# Altium footprint library BeaconBoard.PcbLib: 34 footprints (part 1 of 3)
Each footprint in its own frame and in the unit in brackets; x right, y up, seen from the top. Pads: shape width x height; smd on the part's side, far side on the other; paste and mask are expansions set on the pad; w line width, h text height; cw(c..) or ccw(c..) is an arc to the next point about the centre after c.
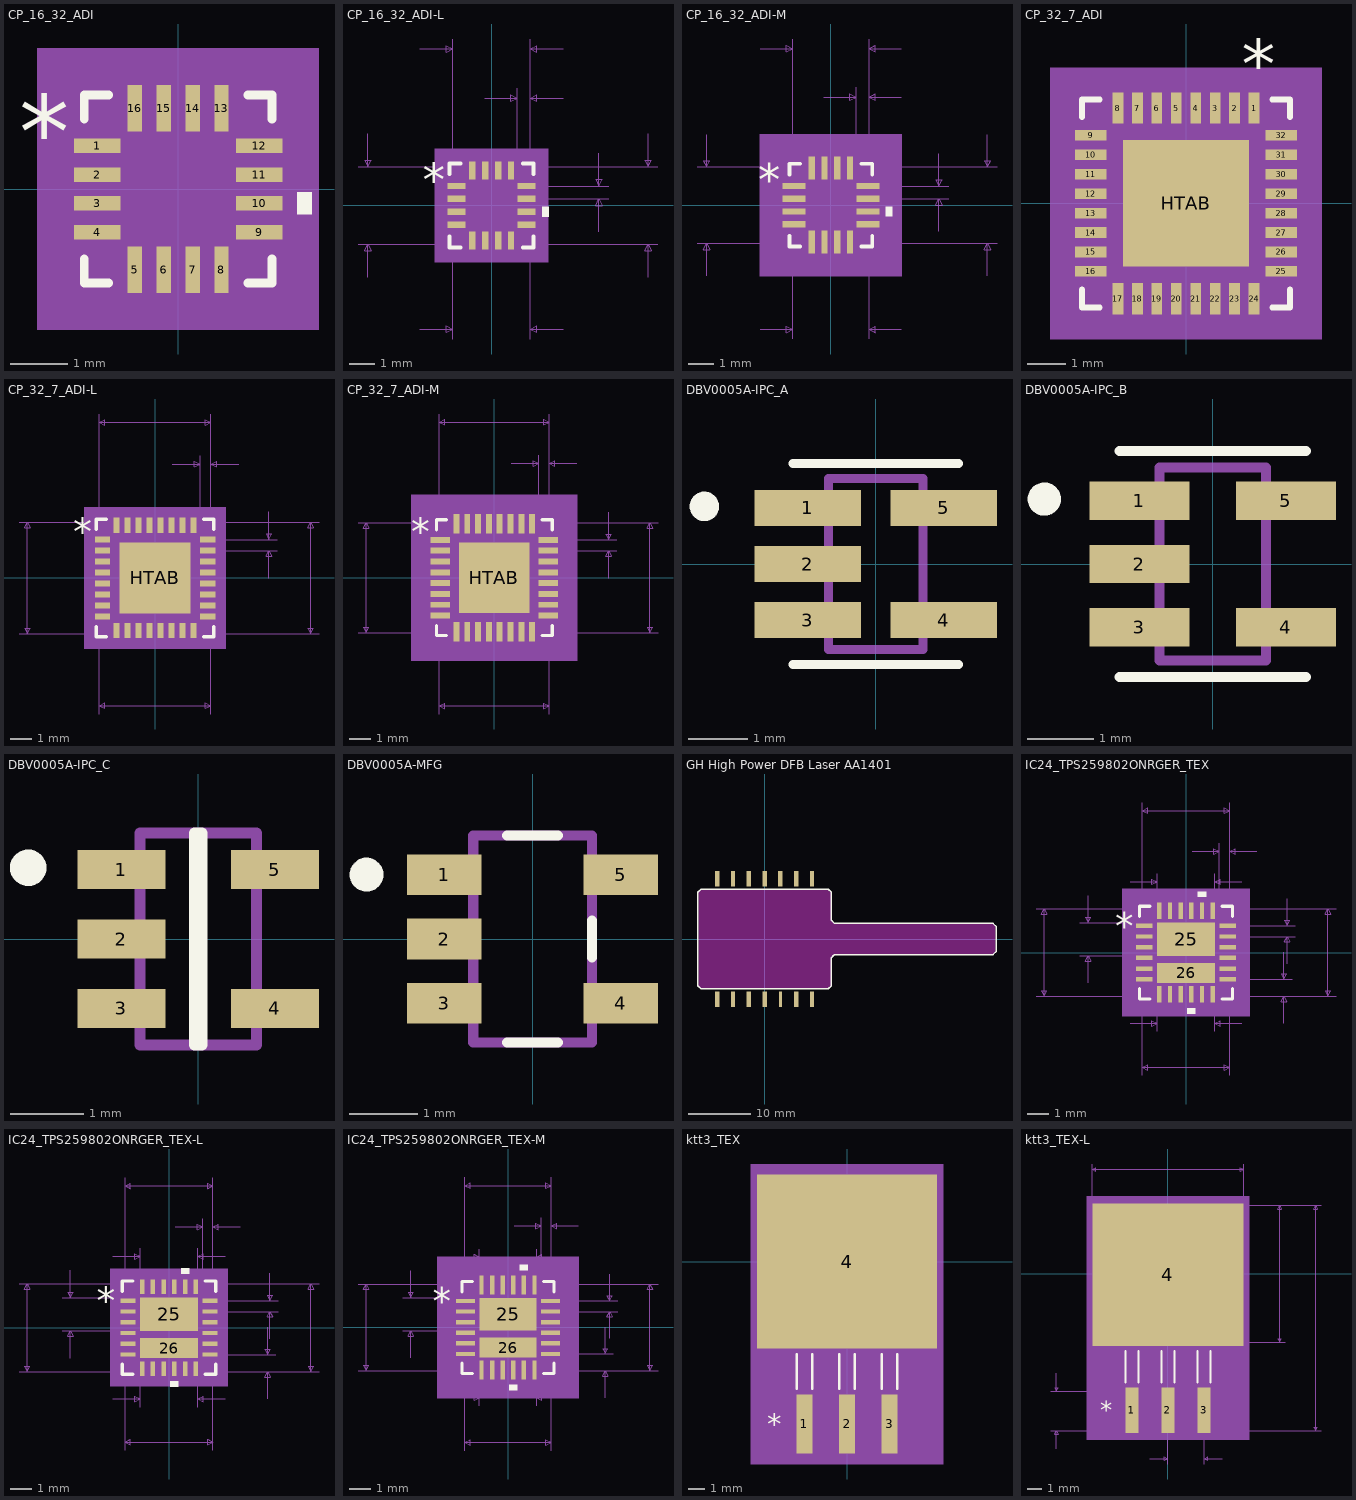
[diagram p0: the footprints below, top view; thin cyan lines are the x and y axes]

## CP_16_32_ADI [mm]
pads (16):
  rect 0.805x0.249 smd paste+0 mask+0: 1(-1.402,0.75) 2(-1.402,0.25) 3(-1.402,-0.25) 4(-1.402,-0.75) 9(1.402,-0.75) 10(1.402,-0.25) 11(1.402,0.25) 12(1.402,0.75)
  rect 0.249x0.805 smd paste+0 mask+0: 5(-0.75,-1.402) 6(-0.25,-1.402) 7(0.25,-1.402) 8(0.75,-1.402) 13(0.75,1.402) 14(0.25,1.402) 15(-0.25,1.402) 16(-0.75,1.402)
Top Overlay:
  region: 2.059,-0.059 2.313,-0.059 2.313,-0.44 2.059,-0.44
  lines w0.152: -1.627,-1.207 -1.627,-1.627 -1.207,-1.627 ; -1.627,1.207 -1.627,1.627 -1.207,1.627 ; 1.207,-1.627 1.627,-1.627 1.627,-1.207 ; 1.207,1.627 1.627,1.627 1.627,1.207
  text "*" at -2.757,0.365 h1.27
Mechanical 5:
  region: 2.44,-2.44 -2.44,-2.44 -2.44,2.44 2.44,2.44
Mechanical 13:
  lines w0.025: -1.5,0.23 -0.23,1.5 ; -1.5,-1.5 -1.5,1.5 1.5,1.5 1.5,-1.5 -1.5,-1.5 ; -1.5,-0.9 -1.5,-0.6 -1.5,-0.9 ; -1.5,-0.4 -1.5,-0.1 -1.5,-0.4 ; -1.5,0.1 -1.5,0.4 -1.5,0.1 ; -1.5,0.6 -1.5,0.9 -1.5,0.6 ; -0.9,-1.5 -0.6,-1.5 -0.9,-1.5 ; -0.9,1.5 -0.6,1.5 -0.9,1.5 ; -0.4,-1.5 -0.1,-1.5 -0.4,-1.5 ; -0.4,1.5 -0.1,1.5 -0.4,1.5 ; 0.1,-1.5 0.4,-1.5 0.1,-1.5 ; 0.1,1.5 0.4,1.5 0.1,1.5 ; 0.6,-1.5 0.9,-1.5 0.6,-1.5 ; 0.6,1.5 0.9,1.5 0.6,1.5 ; 1.5,-0.9 1.5,-0.6 1.5,-0.9 ; 1.5,-0.4 1.5,-0.1 1.5,-0.4 ; 1.5,0.1 1.5,0.4 1.5,0.1 ; 1.5,0.6 1.5,0.9 1.5,0.6
  text "*" at -1.318,0.365 h1.27
Mechanical 15:
  region: -1.129,-1.754 -1.754,-1.754 -1.754,-1.129 -2.059,-1.129 -2.059,1.129 -1.754,1.129 -1.754,1.754 -1.129,1.754 -1.129,2.059 1.129,2.059 1.129,1.754 1.754,1.754 1.754,1.129 2.059,1.129 2.059,-1.129 1.754,-1.129 1.754,-1.754 1.129,-1.754 1.129,-2.059 -1.129,-2.059
  lines w0.152: -2.059,-1.129 -2.059,1.129 -1.754,1.129 -1.754,1.754 -1.129,1.754 -1.129,2.059 1.129,2.059 1.129,1.754 1.754,1.754 1.754,1.129 2.059,1.129 2.059,-1.129 1.754,-1.129 1.754,-1.754 1.129,-1.754 1.129,-2.059 -1.129,-2.059 -1.129,-1.754 -1.754,-1.754 -1.754,-1.129 -2.059,-1.129
3D body "CP_16_32_ADI.step": height 0.89, standoff 0, extent -1.5,-1.5 1.5,1.5
3D body: height 0.25, standoff 0, extent 0,0 0.254,0.254

## CP_16_32_ADI-L [mm]
pads (16):
  rect 0.703x0.249 smd paste+0 mask+0: 1(-1.352,0.75) 2(-1.352,0.25) 3(-1.352,-0.25) 4(-1.352,-0.75) 9(1.352,-0.75) 10(1.352,-0.25) 11(1.352,0.25) 12(1.352,0.75)
  rect 0.249x0.703 smd paste+0 mask+0: 5(-0.75,-1.352) 6(-0.25,-1.352) 7(0.25,-1.352) 8(0.75,-1.352) 13(0.75,1.352) 14(0.25,1.352) 15(-0.25,1.352) 16(-0.75,1.352)
Top Overlay:
  region: 1.957,-0.059 2.211,-0.059 2.211,-0.44 1.957,-0.44
  lines w0.152: -1.627,-1.207 -1.627,-1.627 -1.207,-1.627 ; -1.627,1.207 -1.627,1.627 -1.207,1.627 ; 1.207,-1.627 1.627,-1.627 1.627,-1.207 ; 1.207,1.627 1.627,1.627 1.627,1.207
  text "*" at -2.656,0.365 h1.27
Mechanical 5:
  region: 2.186,-2.186 -2.186,-2.186 -2.186,2.186 2.186,2.186
Mechanical 7:
  lines w0.025: -5.158,-1.5 1.5,-1.5 ; -5.158,1.5 1.5,1.5 1.5,-5.158 ; -4.777,-2.77 -4.777,-1.5 ; -4.777,2.77 -4.777,1.5 ; -2.77,-4.777 -1.5,-4.777 ; -2.77,6.047 -1.5,6.047 ; -1.5,-5.158 -1.5,1.5 ; -1.5,0.75 -1.5,6.428 ; -0.27,4.142 1,4.142 ; 0.75,-1.5 6.428,-1.5 ; 0.75,1.5 6.428,1.5 ; 1,0.75 1,4.523 ; 1.352,0.25 4.523,0.25 ; 1.352,0.75 4.523,0.75 ; 1.5,4.523 1.5,0.75 1.5,6.428 ; 2.77,-4.777 1.5,-4.777 ; 2.77,4.142 1.5,4.142 ; 2.77,6.047 1.5,6.047 ; 4.142,-1.02 4.142,0.25 ; 4.142,2.02 4.142,0.75 ; 6.047,-2.77 6.047,-1.5 ; 6.047,2.77 6.047,1.5 ; -4.777,-1.5 -4.904,-1.754 -4.65,-1.754 -4.777,-1.5 ; -4.777,1.5 -4.904,1.754 -4.65,1.754 -4.777,1.5 ; -1.5,-4.777 -1.754,-4.65 -1.754,-4.904 -1.5,-4.777 ; -1.5,6.047 -1.754,6.174 -1.754,5.92 -1.5,6.047 ; 1,4.142 0.746,4.269 0.746,4.015 1,4.142 ; 1.5,-4.777 1.754,-4.65 1.754,-4.904 1.5,-4.777 ; 1.5,4.142 1.754,4.269 1.754,4.015 1.5,4.142 ; 1.5,6.047 1.754,6.174 1.754,5.92 1.5,6.047 ; 4.142,0.25 4.015,-0.004 4.269,-0.004 4.142,0.25 ; 4.142,0.75 4.015,1.004 4.269,1.004 4.142,0.75 ; 6.047,-1.5 5.92,-1.754 6.174,-1.754 6.047,-1.5 ; 6.047,1.5 5.92,1.754 6.174,1.754 6.047,1.5
  text "Default Padstyle: RX9p81Y27p69D0T" at -10.477,-9.577 h1.27
  text "Alt 1 Padstyle: OX60Y90D30P" at -8.572,-14.149 h1.27
  text "Alt 2 Padstyle: OX90Y60D30P" at -8.572,-15.673 h1.27
  text "0.02in/0.5mm" at 4.65,0.182 h0.64
  text "0.02in/0.5mm" at -0.655,4.65 h0.64
  text "0.118in/3mm" at -1.746,6.555 h0.64
  text "0.118in/3mm" at 6.555,-0.318 h0.64
  text "0.118in/3mm" at -8.777,-0.318 h0.64
  text "0.118in/3mm" at -1.746,-5.92 h0.64
Mechanical 13:
  lines w0.025: -1.5,0.23 -0.23,1.5 ; -1.5,-1.5 1.5,-1.5 1.5,1.5 -1.5,1.5 -1.5,-1.5 ; -1.5,-0.9 -1.5,-0.6 -1.5,-0.9 ; -1.5,-0.4 -1.5,-0.1 -1.5,-0.4 ; -1.5,0.1 -1.5,0.4 -1.5,0.1 ; -1.5,0.6 -1.5,0.9 -1.5,0.6 ; -0.9,-1.5 -0.6,-1.5 -0.9,-1.5 ; -0.9,1.5 -0.6,1.5 -0.9,1.5 ; -0.4,-1.5 -0.1,-1.5 -0.4,-1.5 ; -0.4,1.5 -0.1,1.5 -0.4,1.5 ; 0.1,-1.5 0.4,-1.5 0.1,-1.5 ; 0.1,1.5 0.4,1.5 0.1,1.5 ; 0.6,-1.5 0.9,-1.5 0.6,-1.5 ; 0.6,1.5 0.9,1.5 0.6,1.5 ; 1.5,-0.9 1.5,-0.6 1.5,-0.9 ; 1.5,-0.4 1.5,-0.1 1.5,-0.4 ; 1.5,0.1 1.5,0.4 1.5,0.1 ; 1.5,0.6 1.5,0.9 1.5,0.6
  text "*" at -1.318,0.365 h1.27
Mechanical 15:
  region: -0.976,-1.602 -1.602,-1.602 -1.602,-0.976 -1.805,-0.976 -1.805,0.976 -1.602,0.976 -1.602,1.602 -0.976,1.602 -0.976,1.805 0.976,1.805 0.976,1.602 1.602,1.602 1.602,0.976 1.805,0.976 1.805,-0.976 1.602,-0.976 1.602,-1.602 0.976,-1.602 0.976,-1.805 -0.976,-1.805
  lines w0.152: -1.805,-0.976 -1.602,-0.976 -1.602,-1.602 -0.976,-1.602 -0.976,-1.805 0.976,-1.805 0.976,-1.602 1.602,-1.602 1.602,-0.976 1.805,-0.976 1.805,0.976 1.602,0.976 1.602,1.602 0.976,1.602 0.976,1.805 -0.976,1.805 -0.976,1.602 -1.602,1.602 -1.602,0.976 -1.805,0.976 -1.805,-0.976
3D body: height 0.25, standoff 0, extent 0,0 0.254,0.254
3D body "CP_16_32_ADI.step": height 0.89, standoff 0, extent -1.5,-1.5 1.5,1.5

## CP_16_32_ADI-M [mm]
pads (16):
  rect 0.906x0.249 smd paste+0 mask+0: 1(-1.453,0.75) 2(-1.453,0.25) 3(-1.453,-0.25) 4(-1.453,-0.75) 9(1.453,-0.75) 10(1.453,-0.25) 11(1.453,0.25) 12(1.453,0.75)
  rect 0.249x0.906 smd paste+0 mask+0: 5(-0.75,-1.453) 6(-0.25,-1.453) 7(0.25,-1.453) 8(0.75,-1.453) 13(0.75,1.453) 14(0.25,1.453) 15(-0.25,1.453) 16(-0.75,1.453)
Top Overlay:
  region: 2.16,-0.059 2.414,-0.059 2.414,-0.44 2.16,-0.44
  lines w0.152: -1.627,-1.207 -1.627,-1.627 -1.207,-1.627 ; -1.627,1.207 -1.627,1.627 -1.207,1.627 ; 1.207,-1.627 1.627,-1.627 1.627,-1.207 ; 1.207,1.627 1.627,1.627 1.627,1.207
  text "*" at -2.859,0.365 h1.27
Mechanical 5:
  region: 2.795,-2.795 -2.795,-2.795 -2.795,2.795 2.795,2.795
Mechanical 7:
  lines w0.025: -5.259,-1.5 1.5,-1.5 ; -5.259,1.5 1.5,1.5 1.5,-5.259 ; -4.878,-2.77 -4.878,-1.5 ; -4.878,2.77 -4.878,1.5 ; -2.77,-4.878 -1.5,-4.878 ; -2.77,6.148 -1.5,6.148 ; -1.5,-5.259 -1.5,1.5 ; -1.5,0.75 -1.5,6.529 ; -0.27,4.243 1,4.243 ; 0.75,-1.5 6.529,-1.5 ; 0.75,1.5 6.529,1.5 ; 1,0.75 1,4.624 ; 1.453,0.25 4.624,0.25 ; 1.453,0.75 4.624,0.75 ; 1.5,4.624 1.5,0.75 1.5,6.529 ; 2.77,-4.878 1.5,-4.878 ; 2.77,4.243 1.5,4.243 ; 2.77,6.148 1.5,6.148 ; 4.243,-1.02 4.243,0.25 ; 4.243,2.02 4.243,0.75 ; 6.148,-2.77 6.148,-1.5 ; 6.148,2.77 6.148,1.5 ; -4.878,-1.5 -5.005,-1.754 -4.751,-1.754 -4.878,-1.5 ; -4.878,1.5 -5.005,1.754 -4.751,1.754 -4.878,1.5 ; -1.5,-4.878 -1.754,-4.751 -1.754,-5.005 -1.5,-4.878 ; -1.5,6.148 -1.754,6.275 -1.754,6.021 -1.5,6.148 ; 1,4.243 0.746,4.37 0.746,4.116 1,4.243 ; 1.5,-4.878 1.754,-4.751 1.754,-5.005 1.5,-4.878 ; 1.5,4.243 1.754,4.37 1.754,4.116 1.5,4.243 ; 1.5,6.148 1.754,6.275 1.754,6.021 1.5,6.148 ; 4.243,0.25 4.116,-0.004 4.37,-0.004 4.243,0.25 ; 4.243,0.75 4.116,1.004 4.37,1.004 4.243,0.75 ; 6.148,-1.5 6.021,-1.754 6.275,-1.754 6.148,-1.5 ; 6.148,1.5 6.021,1.754 6.275,1.754 6.148,1.5
  text "Default Padstyle: RX9p81Y35p69D0T" at -10.477,-9.78 h1.27
  text "Alt 1 Padstyle: OX60Y90D30P" at -8.572,-14.352 h1.27
  text "Alt 2 Padstyle: OX90Y60D30P" at -8.572,-15.876 h1.27
  text "0.02in/0.5mm" at 4.751,0.182 h0.64
  text "0.02in/0.5mm" at -0.655,4.751 h0.64
  text "0.118in/3mm" at -1.746,6.656 h0.64
  text "0.118in/3mm" at 6.656,-0.318 h0.64
  text "0.118in/3mm" at -8.879,-0.318 h0.64
  text "0.118in/3mm" at -1.746,-6.021 h0.64
Mechanical 13:
  lines w0.025: -1.5,0.23 -0.23,1.5 ; -1.5,-1.5 1.5,-1.5 1.5,1.5 -1.5,1.5 -1.5,-1.5 ; -1.5,-0.9 -1.5,-0.6 -1.5,-0.9 ; -1.5,-0.4 -1.5,-0.1 -1.5,-0.4 ; -1.5,0.1 -1.5,0.4 -1.5,0.1 ; -1.5,0.6 -1.5,0.9 -1.5,0.6 ; -0.9,-1.5 -0.6,-1.5 -0.9,-1.5 ; -0.9,1.5 -0.6,1.5 -0.9,1.5 ; -0.4,-1.5 -0.1,-1.5 -0.4,-1.5 ; -0.4,1.5 -0.1,1.5 -0.4,1.5 ; 0.1,-1.5 0.4,-1.5 0.1,-1.5 ; 0.1,1.5 0.4,1.5 0.1,1.5 ; 0.6,-1.5 0.9,-1.5 0.6,-1.5 ; 0.6,1.5 0.9,1.5 0.6,1.5 ; 1.5,-0.9 1.5,-0.6 1.5,-0.9 ; 1.5,-0.4 1.5,-0.1 1.5,-0.4 ; 1.5,0.1 1.5,0.4 1.5,0.1 ; 1.5,0.6 1.5,0.9 1.5,0.6
  text "*" at -1.318,0.365 h1.27
Mechanical 15:
  region: -1.383,-2.008 -2.008,-2.008 -2.008,-1.383 -2.414,-1.383 -2.414,1.383 -2.008,1.383 -2.008,2.008 -1.383,2.008 -1.383,2.414 1.383,2.414 1.383,2.008 2.008,2.008 2.008,1.383 2.414,1.383 2.414,-1.383 2.008,-1.383 2.008,-2.008 1.383,-2.008 1.383,-2.414 -1.383,-2.414
  lines w0.152: -2.414,-1.383 -2.008,-1.383 -2.008,-2.008 -1.383,-2.008 -1.383,-2.414 1.383,-2.414 1.383,-2.008 2.008,-2.008 2.008,-1.383 2.414,-1.383 2.414,1.383 2.008,1.383 2.008,2.008 1.383,2.008 1.383,2.414 -1.383,2.414 -1.383,2.008 -2.008,2.008 -2.008,1.383 -2.414,1.383 -2.414,-1.383
3D body "CP_16_32_ADI.step": height 0.89, standoff 0, extent -1.5,-1.5 1.5,1.5
3D body: height 0.25, standoff 0, extent 0,0 0.254,0.254

## CP_32_7_ADI [mm]
pads (33):
  rect 0.275x0.805 smd paste+0 mask+0: 1(1.75,2.452) 2(1.25,2.452) 3(0.75,2.452) 4(0.25,2.452) 5(-0.25,2.452) 6(-0.75,2.452) 7(-1.25,2.452) 8(-1.75,2.452) 17(-1.75,-2.452) 18(-1.25,-2.452) 19(-0.75,-2.452) 20(-0.25,-2.452) 21(0.25,-2.452) 22(0.75,-2.452) 23(1.25,-2.452) 24(1.75,-2.452)
  rect 0.805x0.275 smd paste+0 mask+0: 9(-2.452,1.75) 10(-2.452,1.25) 11(-2.452,0.75) 12(-2.452,0.25) 13(-2.452,-0.25) 14(-2.452,-0.75) 15(-2.452,-1.25) 16(-2.452,-1.75) 25(2.452,-1.75) 26(2.452,-1.25) 27(2.452,-0.75) 28(2.452,-0.25) 29(2.452,0.25) 30(2.452,0.75) 31(2.452,1.25) 32(2.452,1.75)
  rect 3.25x3.25 smd paste+0 mask+0: HTAB(0,0)
Top Overlay:
  lines w0.152: -2.677,-2.22 -2.677,-2.677 -2.22,-2.677 ; -2.677,2.22 -2.677,2.677 -2.22,2.677 ; 2.22,-2.677 2.677,-2.677 2.677,-2.22 ; 2.22,2.677 2.677,2.677 2.677,2.22
  text "*" at 1.432,2.96 h1.27
Top Paste:
  region: -0.1,1.525 -1.525,1.525 -1.525,0.1 -0.1,0.1
  region: -0.1,-0.1 -1.525,-0.1 -1.525,-1.525 -0.1,-1.525
  region: 1.525,1.525 0.1,1.525 0.1,0.1 1.525,0.1
  region: 1.525,-0.1 0.1,-0.1 0.1,-1.525 1.525,-1.525
Mechanical 5:
  region: 3.49,-3.49 -3.49,-3.49 -3.49,3.49 3.49,3.49
Mechanical 13:
  lines w0.025: -2.55,-2.55 2.55,-2.55 2.55,2.55 -2.55,2.55 -2.55,-2.55 ; -2.55,-1.9 -2.55,-1.6 -2.55,-1.9 ; -2.55,-1.4 -2.55,-1.1 -2.55,-1.4 ; -2.55,-0.9 -2.55,-0.6 -2.55,-0.9 ; -2.55,-0.4 -2.55,-0.1 -2.55,-0.4 ; -2.55,0.1 -2.55,0.4 -2.55,0.1 ; -2.55,0.6 -2.55,0.9 -2.55,0.6 ; -2.55,1.1 -2.55,1.4 -2.55,1.1 ; -2.55,1.6 -2.55,1.9 -2.55,1.6 ; -1.9,-2.55 -1.6,-2.55 -1.9,-2.55 ; -1.9,2.55 -1.6,2.55 -1.9,2.55 ; -1.4,-2.55 -1.1,-2.55 -1.4,-2.55 ; -1.4,2.55 -1.1,2.55 -1.4,2.55 ; -0.9,-2.55 -0.6,-2.55 -0.9,-2.55 ; -0.9,2.55 -0.6,2.55 -0.9,2.55 ; -0.4,-2.55 -0.1,-2.55 -0.4,-2.55 ; -0.4,2.55 -0.1,2.55 -0.4,2.55 ; 0.1,-2.55 0.4,-2.55 0.1,-2.55 ; 0.1,2.55 0.4,2.55 0.1,2.55 ; 0.6,-2.55 0.9,-2.55 0.6,-2.55 ; 0.6,2.55 0.9,2.55 0.6,2.55 ; 1.1,-2.55 1.4,-2.55 1.1,-2.55 ; 1.1,2.55 1.4,2.55 1.1,2.55 ; 1.6,-2.55 1.9,-2.55 1.6,-2.55 ; 1.6,2.55 1.9,2.55 1.6,2.55 ; 2.55,-1.9 2.55,-1.6 2.55,-1.9 ; 2.55,-1.4 2.55,-1.1 2.55,-1.4 ; 2.55,-0.9 2.55,-0.6 2.55,-0.9 ; 2.55,-0.4 2.55,-0.1 2.55,-0.4 ; 2.55,0.1 2.55,0.4 2.55,0.1 ; 2.55,0.6 2.55,0.9 2.55,0.6 ; 2.55,1.1 2.55,1.4 2.55,1.1 ; 2.55,1.6 2.55,1.9 2.55,1.6
  text "*" at 1.591,1.983 h0.64
Mechanical 15:
  region: -2.141,-2.804 -2.804,-2.804 -2.804,-2.141 -3.109,-2.141 -3.109,2.141 -2.804,2.141 -2.804,2.804 -2.141,2.804 -2.141,3.109 2.141,3.109 2.141,2.804 2.804,2.804 2.804,2.141 3.109,2.141 3.109,-2.141 2.804,-2.141 2.804,-2.804 2.141,-2.804 2.141,-3.109 -2.141,-3.109
  lines w0.152: -3.109,-2.141 -2.804,-2.141 -2.804,-2.804 -2.141,-2.804 -2.141,-3.109 2.141,-3.109 2.141,-2.804 2.804,-2.804 2.804,-2.141 3.109,-2.141 3.109,2.141 2.804,2.141 2.804,2.804 2.141,2.804 2.141,3.109 -2.141,3.109 -2.141,2.804 -2.804,2.804 -2.804,2.141 -3.109,2.141 -3.109,-2.141
3D body "CP_32_7_ADI.step": height 0.8, standoff 0, extent -2.55,-2.55 2.55,2.55
3D body: height 0.25, standoff 0, extent 0,0 0.254,0.254

## CP_32_7_ADI-L [mm]
pads (33):
  rect 0.275x0.7 smd paste+0 mask+0: 1(1.75,2.4) 2(1.25,2.4) 3(0.75,2.4) 4(0.25,2.4) 5(-0.25,2.4) 6(-0.75,2.4) 7(-1.25,2.4) 8(-1.75,2.4) 17(-1.75,-2.4) 18(-1.25,-2.4) 19(-0.75,-2.4) 20(-0.25,-2.4) 21(0.25,-2.4) 22(0.75,-2.4) 23(1.25,-2.4) 24(1.75,-2.4)
  rect 0.7x0.275 smd paste+0 mask+0: 9(-2.4,1.75) 10(-2.4,1.25) 11(-2.4,0.75) 12(-2.4,0.25) 13(-2.4,-0.25) 14(-2.4,-0.75) 15(-2.4,-1.25) 16(-2.4,-1.75) 25(2.4,-1.75) 26(2.4,-1.25) 27(2.4,-0.75) 28(2.4,-0.25) 29(2.4,0.25) 30(2.4,0.75) 31(2.4,1.25) 32(2.4,1.75)
  rect 3.25x3.25 smd paste+0 mask+0: HTAB(0,0)
Top Overlay:
  lines w0.152: -2.677,-2.22 -2.677,-2.677 -2.22,-2.677 ; -2.677,2.22 -2.677,2.677 -2.22,2.677 ; 2.22,-2.677 2.677,-2.677 2.677,-2.22 ; 2.22,2.677 2.677,2.677 2.677,2.22
  text "*" at -3.734,1.496 h1.27
Top Paste:
  region: 1.525,-0.1 0.1,-0.1 0.1,-1.525 1.525,-1.525
  region: 1.525,1.525 0.1,1.525 0.1,0.1 1.525,0.1
  region: -0.1,-0.1 -1.525,-0.1 -1.525,-1.525 -0.1,-1.525
  region: -0.1,1.525 -1.525,1.525 -1.525,0.1 -0.1,0.1
Mechanical 5:
  region: 3.233,-3.233 -3.233,-3.233 -3.233,3.233 3.233,3.233
Mechanical 7:
  lines w0.025: -6.206,-2.55 2.55,-2.55 ; -6.206,2.55 2.55,2.55 2.55,-6.206 ; -2.55,-6.206 -2.55,2.55 ; -2.55,1.75 -2.55,7.476 ; 0.78,5.19 2.05,5.19 ; 1.75,-2.55 7.476,-2.55 ; 1.75,2.55 7.476,2.55 ; 2.05,1.75 2.05,5.571 ; 2.4,1.25 5.571,1.25 ; 2.4,1.75 5.571,1.75 ; 2.55,5.571 2.55,1.75 2.55,7.476 ; 3.82,5.19 2.55,5.19 ; 5.19,-0.02 5.19,1.25 ; 5.19,3.02 5.19,1.75 ; -5.825,-2.55 -5.698,-2.296 -5.952,-2.296 -5.825,-2.55 ; -5.825,-2.55 -5.825,2.55 ; -5.825,2.55 -5.698,2.296 -5.952,2.296 -5.825,2.55 ; -2.55,-5.825 -2.296,-5.952 -2.296,-5.698 -2.55,-5.825 ; -2.55,-5.825 2.55,-5.825 ; -2.55,7.095 -2.296,6.968 -2.296,7.222 -2.55,7.095 ; -2.55,7.095 2.55,7.095 ; 2.05,5.19 1.796,5.063 1.796,5.317 2.05,5.19 ; 2.55,-5.825 2.296,-5.952 2.296,-5.698 2.55,-5.825 ; 2.55,5.19 2.804,5.063 2.804,5.317 2.55,5.19 ; 2.55,7.095 2.296,6.968 2.296,7.222 2.55,7.095 ; 5.19,1.25 5.317,0.996 5.063,0.996 5.19,1.25 ; 5.19,1.75 5.317,2.004 5.063,2.004 5.19,1.75 ; 7.095,-2.55 7.222,-2.296 6.968,-2.296 7.095,-2.55 ; 7.095,-2.55 7.095,2.55 ; 7.095,2.55 7.222,2.296 6.968,2.296 7.095,2.55
  text "0.201in/5.1mm" at -2.064,-6.968 h0.64
  text "0.201in/5.1mm" at -10.46,-0.318 h0.64
  text "0.201in/5.1mm" at 7.603,-0.318 h0.64
  text "0.201in/5.1mm" at -2.064,7.603 h0.64
  text "0.02in/0.5mm" at 0.395,5.698 h0.64
  text "0.02in/0.5mm" at 5.698,1.182 h0.64
  text "Alt 2 Padstyle: b229_152h76" at -8.572,-15.096 h1.27
  text "Alt 1 Padstyle: b152_229h76" at -8.572,-13.572 h1.27
  text "Heat Tab Padstyle: r325_325" at -8.572,-10.524 h1.27
  text "Default Padstyle: r27_70" at -7.62,-9 h1.27
Mechanical 13:
  lines w0.025: -2.55,-2.55 -2.55,2.55 2.55,2.55 2.55,-2.55 -2.55,-2.55 ; -2.55,-1.9 -2.55,-1.6 -2.55,-1.9 ; -2.55,-1.4 -2.55,-1.1 -2.55,-1.4 ; -2.55,-0.9 -2.55,-0.6 -2.55,-0.9 ; -2.55,-0.4 -2.55,-0.1 -2.55,-0.4 ; -2.55,0.1 -2.55,0.4 -2.55,0.1 ; -2.55,0.6 -2.55,0.9 -2.55,0.6 ; -2.55,1.1 -2.55,1.4 -2.55,1.1 ; -2.55,1.6 -2.55,1.9 -2.55,1.6 ; -1.9,-2.55 -1.6,-2.55 -1.9,-2.55 ; -1.9,2.55 -1.6,2.55 -1.9,2.55 ; -1.4,-2.55 -1.1,-2.55 -1.4,-2.55 ; -1.4,2.55 -1.1,2.55 -1.4,2.55 ; -0.9,-2.55 -0.6,-2.55 -0.9,-2.55 ; -0.9,2.55 -0.6,2.55 -0.9,2.55 ; -0.4,-2.55 -0.1,-2.55 -0.4,-2.55 ; -0.4,2.55 -0.1,2.55 -0.4,2.55 ; 0.1,-2.55 0.4,-2.55 0.1,-2.55 ; 0.1,2.55 0.4,2.55 0.1,2.55 ; 0.6,-2.55 0.9,-2.55 0.6,-2.55 ; 0.6,2.55 0.9,2.55 0.6,2.55 ; 1.1,-2.55 1.4,-2.55 1.1,-2.55 ; 1.1,2.55 1.4,2.55 1.1,2.55 ; 1.6,-2.55 1.9,-2.55 1.6,-2.55 ; 1.6,2.55 1.9,2.55 1.6,2.55 ; 2.55,-1.9 2.55,-1.6 2.55,-1.9 ; 2.55,-1.4 2.55,-1.1 2.55,-1.4 ; 2.55,-0.9 2.55,-0.6 2.55,-0.9 ; 2.55,-0.4 2.55,-0.1 2.55,-0.4 ; 2.55,0.1 2.55,0.4 2.55,0.1 ; 2.55,0.6 2.55,0.9 2.55,0.6 ; 2.55,1.1 2.55,1.4 2.55,1.1 ; 2.55,1.6 2.55,1.9 2.55,1.6
  text "*" at -2.305,1.585 h0.64
Mechanical 15:
  region: -1.989,-2.652 -2.652,-2.652 -2.652,-1.989 -2.852,-1.989 -2.852,1.989 -2.652,1.989 -2.652,2.652 -1.989,2.652 -1.989,2.852 1.989,2.852 1.989,2.652 2.652,2.652 2.652,1.989 2.852,1.989 2.852,-1.989 2.652,-1.989 2.652,-2.652 1.989,-2.652 1.989,-2.852 -1.989,-2.852
  lines w0.152: -2.852,-1.989 -2.852,1.989 -2.652,1.989 -2.652,2.652 -1.989,2.652 -1.989,2.852 1.989,2.852 1.989,2.652 2.652,2.652 2.652,1.989 2.852,1.989 2.852,-1.989 2.652,-1.989 2.652,-2.652 1.989,-2.652 1.989,-2.852 -1.989,-2.852 -1.989,-2.652 -2.652,-2.652 -2.652,-1.989 -2.852,-1.989
3D body "CP_32_7_ADI.step": height 0.8, standoff 0, extent -2.55,-2.55 2.55,2.55
3D body: height 0.25, standoff 0, extent 0,0 0.254,0.254

## CP_32_7_ADI-M [mm]
pads (33):
  rect 0.275x0.9 smd paste+0 mask+0: 1(1.75,2.5) 2(1.25,2.5) 3(0.75,2.5) 4(0.25,2.5) 5(-0.25,2.5) 6(-0.75,2.5) 7(-1.25,2.5) 8(-1.75,2.5) 17(-1.75,-2.5) 18(-1.25,-2.5) 19(-0.75,-2.5) 20(-0.25,-2.5) 21(0.25,-2.5) 22(0.75,-2.5) 23(1.25,-2.5) 24(1.75,-2.5)
  rect 0.9x0.275 smd paste+0 mask+0: 9(-2.5,1.75) 10(-2.5,1.25) 11(-2.5,0.75) 12(-2.5,0.25) 13(-2.5,-0.25) 14(-2.5,-0.75) 15(-2.5,-1.25) 16(-2.5,-1.75) 25(2.5,-1.75) 26(2.5,-1.25) 27(2.5,-0.75) 28(2.5,-0.25) 29(2.5,0.25) 30(2.5,0.75) 31(2.5,1.25) 32(2.5,1.75)
  rect 3.25x3.25 smd paste+0 mask+0: HTAB(0,0)
Top Overlay:
  lines w0.152: -2.677,-2.22 -2.677,-2.677 -2.22,-2.677 ; -2.677,2.22 -2.677,2.677 -2.22,2.677 ; 2.22,-2.677 2.677,-2.677 2.677,-2.22 ; 2.22,2.677 2.677,2.677 2.677,2.22
  text "*" at -3.834,1.496 h1.27
Top Paste:
  region: -0.1,1.525 -1.525,1.525 -1.525,0.1 -0.1,0.1
  region: -0.1,-0.1 -1.525,-0.1 -1.525,-1.525 -0.1,-1.525
  region: 1.525,1.525 0.1,1.525 0.1,0.1 1.525,0.1
  region: 1.525,-0.1 0.1,-0.1 0.1,-1.525 1.525,-1.525
Mechanical 5:
  region: 3.839,-3.839 -3.839,-3.839 -3.839,3.839 3.839,3.839
Mechanical 7:
  lines w0.025: -6.306,-2.55 2.55,-2.55 ; -6.306,2.55 2.55,2.55 2.55,-6.306 ; -2.55,-6.306 -2.55,2.55 ; -2.55,1.75 -2.55,7.576 ; 0.78,5.29 2.05,5.29 ; 1.75,-2.55 7.576,-2.55 ; 1.75,2.55 7.576,2.55 ; 2.05,1.75 2.05,5.671 ; 2.5,1.25 5.671,1.25 ; 2.5,1.75 5.671,1.75 ; 2.55,5.671 2.55,1.75 2.55,7.576 ; 3.82,5.29 2.55,5.29 ; 5.29,-0.02 5.29,1.25 ; 5.29,3.02 5.29,1.75 ; -5.925,-2.55 -5.925,2.55 ; -5.925,-2.55 -6.052,-2.296 -5.798,-2.296 -5.925,-2.55 ; -5.925,2.55 -6.052,2.296 -5.798,2.296 -5.925,2.55 ; -2.55,-5.925 2.55,-5.925 ; -2.55,-5.925 -2.296,-5.798 -2.296,-6.052 -2.55,-5.925 ; -2.55,7.195 2.55,7.195 ; -2.55,7.195 -2.296,7.322 -2.296,7.068 -2.55,7.195 ; 2.05,5.29 1.796,5.417 1.796,5.163 2.05,5.29 ; 2.55,-5.925 2.296,-5.798 2.296,-6.052 2.55,-5.925 ; 2.55,5.29 2.804,5.417 2.804,5.163 2.55,5.29 ; 2.55,7.195 2.296,7.322 2.296,7.068 2.55,7.195 ; 5.29,1.25 5.163,0.996 5.417,0.996 5.29,1.25 ; 5.29,1.75 5.163,2.004 5.417,2.004 5.29,1.75 ; 7.195,-2.55 7.195,2.55 ; 7.195,-2.55 7.068,-2.296 7.322,-2.296 7.195,-2.55 ; 7.195,2.55 7.068,2.296 7.322,2.296 7.195,2.55
  text "Default Padstyle: r27_90" at -7.62,-9.1 h1.27
  text "Heat Tab Padstyle: r325_325" at -8.572,-10.624 h1.27
  text "Alt 1 Padstyle: b152_229h76" at -8.572,-13.672 h1.27
  text "Alt 2 Padstyle: b229_152h76" at -8.572,-15.196 h1.27
  text "0.02in/0.5mm" at 5.798,1.182 h0.64
  text "0.02in/0.5mm" at 0.395,5.798 h0.64
  text "0.201in/5.1mm" at -2.064,7.703 h0.64
  text "0.201in/5.1mm" at 7.703,-0.318 h0.64
  text "0.201in/5.1mm" at -10.56,-0.318 h0.64
  text "0.201in/5.1mm" at -2.064,-7.068 h0.64
Mechanical 13:
  lines w0.025: -2.55,-2.55 2.55,-2.55 2.55,2.55 -2.55,2.55 -2.55,-2.55 ; -2.55,-1.9 -2.55,-1.6 -2.55,-1.9 ; -2.55,-1.4 -2.55,-1.1 -2.55,-1.4 ; -2.55,-0.9 -2.55,-0.6 -2.55,-0.9 ; -2.55,-0.4 -2.55,-0.1 -2.55,-0.4 ; -2.55,0.1 -2.55,0.4 -2.55,0.1 ; -2.55,0.6 -2.55,0.9 -2.55,0.6 ; -2.55,1.1 -2.55,1.4 -2.55,1.1 ; -2.55,1.6 -2.55,1.9 -2.55,1.6 ; -1.9,-2.55 -1.6,-2.55 -1.9,-2.55 ; -1.9,2.55 -1.6,2.55 -1.9,2.55 ; -1.4,-2.55 -1.1,-2.55 -1.4,-2.55 ; -1.4,2.55 -1.1,2.55 -1.4,2.55 ; -0.9,-2.55 -0.6,-2.55 -0.9,-2.55 ; -0.9,2.55 -0.6,2.55 -0.9,2.55 ; -0.4,-2.55 -0.1,-2.55 -0.4,-2.55 ; -0.4,2.55 -0.1,2.55 -0.4,2.55 ; 0.1,-2.55 0.4,-2.55 0.1,-2.55 ; 0.1,2.55 0.4,2.55 0.1,2.55 ; 0.6,-2.55 0.9,-2.55 0.6,-2.55 ; 0.6,2.55 0.9,2.55 0.6,2.55 ; 1.1,-2.55 1.4,-2.55 1.1,-2.55 ; 1.1,2.55 1.4,2.55 1.1,2.55 ; 1.6,-2.55 1.9,-2.55 1.6,-2.55 ; 1.6,2.55 1.9,2.55 1.6,2.55 ; 2.55,-1.9 2.55,-1.6 2.55,-1.9 ; 2.55,-1.4 2.55,-1.1 2.55,-1.4 ; 2.55,-0.9 2.55,-0.6 2.55,-0.9 ; 2.55,-0.4 2.55,-0.1 2.55,-0.4 ; 2.55,0.1 2.55,0.4 2.55,0.1 ; 2.55,0.6 2.55,0.9 2.55,0.6 ; 2.55,1.1 2.55,1.4 2.55,1.1 ; 2.55,1.6 2.55,1.9 2.55,1.6
  text "*" at -2.405,1.585 h0.64
Mechanical 15:
  region: -2.395,-3.058 -3.058,-3.058 -3.058,-2.395 -3.458,-2.395 -3.458,2.395 -3.058,2.395 -3.058,3.058 -2.395,3.058 -2.395,3.458 2.395,3.458 2.395,3.058 3.058,3.058 3.058,2.395 3.458,2.395 3.458,-2.395 3.058,-2.395 3.058,-3.058 2.395,-3.058 2.395,-3.458 -2.395,-3.458
  lines w0.152: -3.458,-2.395 -3.058,-2.395 -3.058,-3.058 -2.395,-3.058 -2.395,-3.458 2.395,-3.458 2.395,-3.058 3.058,-3.058 3.058,-2.395 3.458,-2.395 3.458,2.395 3.058,2.395 3.058,3.058 2.395,3.058 2.395,3.458 -2.395,3.458 -2.395,3.058 -3.058,3.058 -3.058,2.395 -3.458,2.395 -3.458,-2.395
3D body "CP_32_7_ADI.step": height 0.8, standoff 0, extent -2.55,-2.55 2.55,2.55
3D body: height 0.25, standoff 0, extent 0,0 0.254,0.254

## DBV0005A-IPC_A [mm]
pads (5):
  rect 1.805x0.612 smd paste+0 mask+0: 1(-1.15,0.95) 2(-1.15,0) 3(-1.15,-0.95) 4(1.15,-0.95) 5(1.15,0.95)
Top Overlay:
  circle w0.25: c-2.903,0.975 r0.125
  lines w0.15: -1.4,-1.7 1.4,-1.7 ; -1.4,1.7 1.4,1.7
Mechanical 13:
  lines w0.15: -0.8,-1.45 -0.8,1.45 0.8,1.45 0.8,-1.45 -0.8,-1.45
3D body: height 0.25, standoff 0, extent 0,0 0.254,0.254
3D body "DBV0005A.stp": height 1.2, standoff 0, extent -1.4,-1.45 1.4,1.45

## DBV0005A-IPC_B [mm]
pads (5):
  rect 1.505x0.572 smd paste+0 mask+0: 1(-1.1,0.95) 2(-1.1,0) 3(-1.1,-0.95) 4(1.1,-0.95) 5(1.1,0.95)
Top Overlay:
  circle w0.25: c-2.528,0.975 r0.125
  lines w0.15: -1.4,-1.7 1.4,-1.7 ; -1.4,1.7 1.4,1.7
Mechanical 13:
  lines w0.15: -0.8,-1.45 -0.8,1.45 0.8,1.45 0.8,-1.45 -0.8,-1.45
3D body "DBV0005A.stp": height 1.2, standoff 0, extent -1.4,-1.45 1.4,1.45
3D body: height 0.25, standoff 0, extent 0,0 0.254,0.254

## DBV0005A-IPC_C [mm]
pads (5):
  rect 1.205x0.532 smd paste+0 mask+0: 1(-1.05,0.95) 2(-1.05,0) 3(-1.05,-0.95) 4(1.05,-0.95) 5(1.05,0.95)
Top Overlay:
  circle w0.25: c-2.328,0.975 r0.125
  lines w0.15: -0.052,-1.45 0.052,-1.45 0.052,1.45 -0.052,1.45 -0.052,-1.45
Mechanical 13:
  lines w0.15: -0.8,-1.45 -0.8,1.45 0.8,1.45 0.8,-1.45 -0.8,-1.45
3D body: height 0.25, standoff 0, extent 0,0 0.254,0.254
3D body "DBV0005A.stp": height 1.2, standoff 0, extent -1.4,-1.45 1.4,1.45

## DBV0005A-MFG [mm]
pads (5):
  rect 1.1x0.6 smd paste+0 mask+0: 1(-1.3,0.95) 2(-1.3,0) 3(-1.3,-0.95) 4(1.3,-0.95) 5(1.3,0.95)
Top Overlay:
  circle w0.25: c-2.45,0.95 r0.125
  lines w0.15: -0.375,-1.525 0.375,-1.525 ; -0.375,1.525 0.375,1.525 ; 0.875,-0.275 0.875,0.275
Mechanical 13:
  lines w0.15: -0.875,-1.525 -0.875,1.525 0.875,1.525 0.875,-1.525 -0.875,-1.525
3D body: height 0.25, standoff 0, extent 0,0 0.254,0.254
3D body "DBV0005A.stp": height 1.2, standoff 0, extent -1.4,-1.45 1.4,1.45

## GH High Power DFB Laser AA1401 [mm] "Laser Pulser"
pads (14):
  rect 0.7x2.5 smd: 1(7.62,9.675) 2(5.08,9.675) 3(2.54,9.675) 4(0,9.675) 5(-2.54,9.675) 6(-5.08,9.675) 7(-7.62,9.675) 8(-7.62,-9.675) 9(-5.08,-9.675) 10(-2.54,-9.675) 11(0,-9.675) 13(5.08,-9.675) 14(7.62,-9.675)
  rect 0.5x2.5 smd: 12(2.54,-9.675)
Top Overlay:
  lines w0.254: -10.75,-7.5 -10.25,-8 10.25,-8 10.75,-7.5 10.75,-5 10.75,-3 11.125,-2.625 11.25,-2.5 36.75,-2.5 37.25,-2 37.25,1.875 37.25,2 36.75,2.5 11.25,2.5 10.75,3 10.75,7.5 10.25,8 -10.25,8 -10.75,7.5 -10.75,-7.5
Keep-Out Layer:
  board cut-out: 10.25,7.875 10.625,7.5 10.625,3 11.25,2.375 36.75,2.375 37.125,2 37.125,-2 36.75,-2.375 11.25,-2.375 10.625,-3 10.625,-7.5 10.25,-7.875 -10.25,-7.875 -10.625,-7.5 -10.625,7.5 -10.25,7.875
Multi-Layer:
  pour cut-out: -10.375,8.125 -10.75,7.75 -10.875,7.625 -10.875,-7.625 -10.375,-8.125 10.375,-8.125 10.875,-7.625 10.875,-3.125 11.375,-2.625 23.125,-2.625 36.875,-2.625 37.375,-2.125 37.375,2.125 36.875,2.625 11.375,2.625 10.875,3.125 10.875,7.625 10.375,8.125
3D body "AA1401_series_laser_trimmed.STEP": height 4.04, standoff -5.45, extent -14.975,-11.525 37.225,11.575

## IC24_TPS259802ONRGER_TEX [mil]
pads (26):
  rect 31x8 smd paste+0 mask+0: 1(-77,49.21) 2(-77,29.53) 3(-77,9.84) 4(-77,-9.84) 5(-77,-29.53) 6(-77,-49.21) 13(77,-49.21) 14(77,-29.53) 15(77,-9.84) 16(77,9.84) 17(77,29.53) 18(77,49.21)
  rect 8x31 smd paste+0 mask+0: 7(-49.21,-77) 8(-29.53,-77) 9(-9.84,-77) 10(9.84,-77) 11(29.53,-77) 12(49.21,-77) 19(49.21,77) 20(29.53,77) 21(9.84,77) 22(-9.84,77) 23(-29.53,77) 24(-49.21,77)
  rect 106x61 smd paste+0 mask+0: 25(0,24.61)
  rect 106x37 smd paste+0 mask+0: 26(0,-37.4)
Top Overlay:
  region: 37.03,102.5 22.03,102.5 22.03,112.5 37.03,112.5
  region: 17.34,-102.5 2.34,-102.5 2.34,-112.5 17.34,-112.5
  lines w6: -85.5,-66.31 -85.5,-85.5 -66.31,-85.5 ; -85.5,66.31 -85.5,85.5 -66.31,85.5 ; 66.31,-85.5 85.5,-85.5 85.5,-66.31 ; 66.31,85.5 85.5,85.5 85.5,66.31
  text "*" at -130,24.21 h50
Mechanical 5:
  region: 117.5,-117.5 -117.5,-117.5 -117.5,117.5 117.5,117.5
Mechanical 7:
  lines w1: -276.5,-80.5 80.5,-80.5 ; -276.5,80.5 80.5,80.5 80.5,-226.5 ; -195.5,-5.89 -53,-5.89 -53,-145.5 ; -195.5,55.11 -53,55.11 ; -180.5,-55.89 -180.5,-5.89 ; -180.5,105.11 -180.5,55.11 ; -103,-130.5 -53,-130.5 ; -103,130.5 -53,130.5 ; -80.5,-226.5 -80.5,80.5 ; -80.5,49.21 -80.5,276.5 ; -53,55.9 -53,145.5 ; 11.5,186.5 61.5,186.5 ; 49.21,80.5 276.5,80.5 ; 53,-145.5 53,-5.89 ; 53,55.11 53,145.5 ; 61.5,49.21 61.5,201.5 ; 77,29.53 201.5,29.53 ; 77,49.21 201.5,49.21 ; 80.5,-49.21 195.5,-49.21 ; 80.5,201.5 80.5,49.21 80.5,276.5 ; 103,-130.5 53,-130.5 ; 103,130.5 53,130.5 ; 130.5,186.5 80.5,186.5 ; 180.5,-130.5 180.5,-80.5 ; 180.5,0.79 180.5,-49.21 ; 186.5,-20.47 186.5,29.53 ; 186.5,99.21 186.5,49.21 ; 195.5,-80.5 49.21,-80.5 276.5,-80.5 ; -261.5,-80.5 -256.5,-70.5 -266.5,-70.5 -261.5,-80.5 ; -261.5,-80.5 -261.5,80.5 ; -261.5,80.5 -256.5,70.5 -266.5,70.5 -261.5,80.5 ; -180.5,-5.89 -175.5,-15.89 -185.5,-15.89 -180.5,-5.89 ; -180.5,55.11 -175.5,65.11 -185.5,65.11 -180.5,55.11 ; -80.5,-211.5 -70.5,-216.5 -70.5,-206.5 -80.5,-211.5 ; -80.5,-211.5 80.5,-211.5 ; -80.5,261.5 -70.5,256.5 -70.5,266.5 -80.5,261.5 ; -80.5,261.5 80.5,261.5 ; -53,-130.5 -63,-135.5 -63,-125.5 -53,-130.5 ; -53,130.5 -63,125.5 -63,135.5 -53,130.5 ; 53,-130.5 63,-135.5 63,-125.5 53,-130.5 ; 53,130.5 63,125.5 63,135.5 53,130.5 ; 61.5,186.5 51.5,181.5 51.5,191.5 61.5,186.5 ; 80.5,-211.5 70.5,-216.5 70.5,-206.5 80.5,-211.5 ; 80.5,186.5 90.5,181.5 90.5,191.5 80.5,186.5 ; 80.5,261.5 70.5,256.5 70.5,266.5 80.5,261.5 ; 180.5,-80.5 185.5,-90.5 175.5,-90.5 180.5,-80.5 ; 180.5,-49.21 185.5,-39.21 175.5,-39.21 180.5,-49.21 ; 186.5,29.53 191.5,19.53 181.5,19.53 186.5,29.53 ; 186.5,49.21 191.5,59.21 181.5,59.21 186.5,49.21 ; 261.5,-80.5 266.5,-70.5 256.5,-70.5 261.5,-80.5 ; 261.5,-80.5 261.5,80.5 ; 261.5,80.5 266.5,70.5 256.5,70.5 261.5,80.5
  text "0.031in/0.795mm" at 86.75,-75 h25
  text "-0.106in/-2.692mm" at -106.25,150.5 h25
  text "0.061in/1.549mm" at -274.25,-20 h25
  text "0.106in/2.692mm" at -93.75,-175.5 h25
  text "0.161in/4.089mm" at -93.75,-256.5 h25
  text "0.161in/4.089mm" at -469,-12.5 h25
  text "0.161in/4.089mm" at 281.5,-12.5 h25
  text "0.161in/4.089mm" at -93.75,281.5 h25
  text "0.019in/0.483mm" at -22.75,206.5 h25
  text "0.02in/0.5mm" at 111.5,26.87 h25
  text "Alt 2 Padstyle: OX90Y60D30P" at -337.5,-816.5 h50
  text "Alt 1 Padstyle: OX60Y90D30P" at -337.5,-756.5 h50
  text "Heat Tab 2 Padstyle: RX106Y37D0T" at -400,-456.5 h50
  text "Heat Tab 1 Padstyle: RX106Y61D0T" at -400,-396.5 h50
  text "Default Padstyle: RX8Y31D0T" at -337.5,-336.5 h50
Mechanical 13:
  lines w1: -80.5,30.5 -30.5,80.5 ; -80.5,-80.5 -80.5,80.5 80.5,80.5 80.5,-80.5 -80.5,-80.5 ; -80.5,-54.21 -80.5,-44.21 -80.5,-54.21 ; -80.5,-34.53 -80.5,-24.53 -80.5,-34.53 ; -80.5,-14.84 -80.5,-4.84 -80.5,-14.84 ; -80.5,4.84 -80.5,14.84 -80.5,4.84 ; -80.5,24.53 -80.5,34.53 -80.5,24.53 ; -80.5,44.21 -80.5,54.21 -80.5,44.21 ; -54.21,-80.5 -44.21,-80.5 -54.21,-80.5 ; -54.21,80.5 -44.21,80.5 -54.21,80.5 ; -34.53,-80.5 -24.53,-80.5 -34.53,-80.5 ; -34.53,80.5 -24.53,80.5 -34.53,80.5 ; -14.84,-80.5 -4.84,-80.5 -14.84,-80.5 ; -14.84,80.5 -4.84,80.5 -14.84,80.5 ; 4.84,-80.5 14.84,-80.5 4.84,-80.5 ; 4.84,80.5 14.84,80.5 4.84,80.5 ; 24.53,-80.5 34.53,-80.5 24.53,-80.5 ; 24.53,80.5 34.53,80.5 24.53,80.5 ; 44.21,-80.5 54.21,-80.5 44.21,-80.5 ; 44.21,80.5 54.21,80.5 44.21,80.5 ; 80.5,-54.21 80.5,-44.21 80.5,-54.21 ; 80.5,-34.53 80.5,-24.53 80.5,-34.53 ; 80.5,-14.84 80.5,-4.84 80.5,-14.84 ; 80.5,4.84 80.5,14.84 80.5,4.84 ; 80.5,24.53 80.5,34.53 80.5,24.53 ; 80.5,44.21 80.5,54.21 80.5,44.21
  text "*" at -49,24.21 h50
Mechanical 15:
  region: -63.21,-90.5 -90.5,-90.5 -90.5,-63.21 -102.5,-63.21 -102.5,63.21 -90.5,63.21 -90.5,90.5 -63.21,90.5 -63.21,102.5 63.21,102.5 63.21,90.5 90.5,90.5 90.5,63.21 102.5,63.21 102.5,-63.21 90.5,-63.21 90.5,-90.5 63.21,-90.5 63.21,-102.5 -63.21,-102.5
  lines w6: -102.5,-63.21 -102.5,63.21 -90.5,63.21 -90.5,90.5 -63.21,90.5 -63.21,102.5 63.21,102.5 63.21,90.5 90.5,90.5 90.5,63.21 102.5,63.21 102.5,-63.21 90.5,-63.21 90.5,-90.5 63.21,-90.5 63.21,-102.5 -63.21,-102.5 -63.21,-90.5 -90.5,-90.5 -90.5,-63.21 -102.5,-63.21
3D body: height 10, standoff 0, extent 0,0 10,10

## IC24_TPS259802ONRGER_TEX-L [mil]
pads (26):
  rect 27x8 smd paste+0 mask+0: 1(-75,49.21) 2(-75,29.53) 3(-75,9.84) 4(-75,-9.84) 5(-75,-29.53) 6(-75,-49.21) 13(75,-49.21) 14(75,-29.53) 15(75,-9.84) 16(75,9.84) 17(75,29.53) 18(75,49.21)
  rect 8x27 smd paste+0 mask+0: 7(-49.21,-75) 8(-29.53,-75) 9(-9.84,-75) 10(9.84,-75) 11(29.53,-75) 12(49.21,-75) 19(49.21,75) 20(29.53,75) 21(9.84,75) 22(-9.84,75) 23(-29.53,75) 24(-49.21,75)
  rect 106x61 smd paste+0 mask+0: 25(0,24.61)
  rect 106x37 smd paste+0 mask+0: 26(0,-37.4)
Top Overlay:
  region: 37.03,98.5 22.03,98.5 22.03,108.5 37.03,108.5
  region: 17.34,-98.5 2.34,-98.5 2.34,-108.5 17.34,-108.5
  lines w6: -85.5,-66.31 -85.5,-85.5 -66.31,-85.5 ; -85.5,66.31 -85.5,85.5 -66.31,85.5 ; 66.31,-85.5 85.5,-85.5 85.5,-66.31 ; 66.31,85.5 85.5,85.5 85.5,66.31
  text "*" at -132,24.21 h50
Mechanical 5:
  region: 107.5,-107.5 -107.5,-107.5 -107.5,107.5 107.5,107.5
Mechanical 7:
  lines w1: -274.5,-80.5 80.5,-80.5 ; -274.5,80.5 80.5,80.5 80.5,-224.5 ; -195.5,-5.89 -53,-5.89 -53,-145.5 ; -195.5,55.11 -53,55.11 ; -180.5,-55.89 -180.5,-5.89 ; -180.5,105.11 -180.5,55.11 ; -103,-130.5 -53,-130.5 ; -103,130.5 -53,130.5 ; -80.5,-224.5 -80.5,80.5 ; -80.5,49.21 -80.5,274.5 ; -53,55.9 -53,145.5 ; 11.5,184.5 61.5,184.5 ; 49.21,80.5 274.5,80.5 ; 53,-145.5 53,-5.89 ; 53,55.11 53,145.5 ; 61.5,49.21 61.5,199.5 ; 75,29.53 199.5,29.53 ; 75,49.21 199.5,49.21 ; 80.5,-49.21 195.5,-49.21 ; 80.5,199.5 80.5,49.21 80.5,274.5 ; 103,-130.5 53,-130.5 ; 103,130.5 53,130.5 ; 130.5,184.5 80.5,184.5 ; 180.5,-130.5 180.5,-80.5 ; 180.5,0.79 180.5,-49.21 ; 184.5,-20.47 184.5,29.53 ; 184.5,99.21 184.5,49.21 ; 195.5,-80.5 49.21,-80.5 274.5,-80.5 ; -259.5,-80.5 -254.5,-70.5 -264.5,-70.5 -259.5,-80.5 ; -259.5,-80.5 -259.5,80.5 ; -259.5,80.5 -254.5,70.5 -264.5,70.5 -259.5,80.5 ; -180.5,-5.89 -175.5,-15.89 -185.5,-15.89 -180.5,-5.89 ; -180.5,55.11 -175.5,65.11 -185.5,65.11 -180.5,55.11 ; -80.5,-209.5 -70.5,-214.5 -70.5,-204.5 -80.5,-209.5 ; -80.5,-209.5 80.5,-209.5 ; -80.5,259.5 -70.5,254.5 -70.5,264.5 -80.5,259.5 ; -80.5,259.5 80.5,259.5 ; -53,-130.5 -63,-135.5 -63,-125.5 -53,-130.5 ; -53,130.5 -63,125.5 -63,135.5 -53,130.5 ; 53,-130.5 63,-135.5 63,-125.5 53,-130.5 ; 53,130.5 63,125.5 63,135.5 53,130.5 ; 61.5,184.5 51.5,179.5 51.5,189.5 61.5,184.5 ; 80.5,-209.5 70.5,-214.5 70.5,-204.5 80.5,-209.5 ; 80.5,184.5 90.5,179.5 90.5,189.5 80.5,184.5 ; 80.5,259.5 70.5,254.5 70.5,264.5 80.5,259.5 ; 180.5,-80.5 185.5,-90.5 175.5,-90.5 180.5,-80.5 ; 180.5,-49.21 185.5,-39.21 175.5,-39.21 180.5,-49.21 ; 184.5,29.53 189.5,19.53 179.5,19.53 184.5,29.53 ; 184.5,49.21 189.5,59.21 179.5,59.21 184.5,49.21 ; 259.5,-80.5 264.5,-70.5 254.5,-70.5 259.5,-80.5 ; 259.5,-80.5 259.5,80.5 ; 259.5,80.5 264.5,70.5 254.5,70.5 259.5,80.5
  text "0.031in/0.795mm" at 86.75,-73 h25
  text "-0.106in/-2.692mm" at -106.25,150.5 h25
  text "0.061in/1.549mm" at -274.25,-20 h25
  text "0.106in/2.692mm" at -93.75,-175.5 h25
  text "0.161in/4.089mm" at -93.75,-254.5 h25
  text "0.161in/4.089mm" at -467,-12.5 h25
  text "0.161in/4.089mm" at 279.5,-12.5 h25
  text "0.161in/4.089mm" at -93.75,279.5 h25
  text "0.019in/0.483mm" at -22.75,204.5 h25
  text "0.02in/0.5mm" at 109.5,26.87 h25
  text "Alt 2 Padstyle: OX90Y60D30P" at -337.5,-814.5 h50
  text "Alt 1 Padstyle: OX60Y90D30P" at -337.5,-754.5 h50
  text "Heat Tab 2 Padstyle: RX106Y37D0T" at -400,-454.5 h50
  text "Heat Tab 1 Padstyle: RX106Y61D0T" at -400,-394.5 h50
  text "Default Padstyle: RX8Y27D0T" at -337.5,-334.5 h50
Mechanical 13:
  lines w1: -80.5,30.5 -30.5,80.5 ; -80.5,-80.5 -80.5,80.5 80.5,80.5 80.5,-80.5 -80.5,-80.5 ; -80.5,-54.21 -80.5,-44.21 -80.5,-54.21 ; -80.5,-34.53 -80.5,-24.53 -80.5,-34.53 ; -80.5,-14.84 -80.5,-4.84 -80.5,-14.84 ; -80.5,4.84 -80.5,14.84 -80.5,4.84 ; -80.5,24.53 -80.5,34.53 -80.5,24.53 ; -80.5,44.21 -80.5,54.21 -80.5,44.21 ; -54.21,-80.5 -44.21,-80.5 -54.21,-80.5 ; -54.21,80.5 -44.21,80.5 -54.21,80.5 ; -34.53,-80.5 -24.53,-80.5 -34.53,-80.5 ; -34.53,80.5 -24.53,80.5 -34.53,80.5 ; -14.84,-80.5 -4.84,-80.5 -14.84,-80.5 ; -14.84,80.5 -4.84,80.5 -14.84,80.5 ; 4.84,-80.5 14.84,-80.5 4.84,-80.5 ; 4.84,80.5 14.84,80.5 4.84,80.5 ; 24.53,-80.5 34.53,-80.5 24.53,-80.5 ; 24.53,80.5 34.53,80.5 24.53,80.5 ; 44.21,-80.5 54.21,-80.5 44.21,-80.5 ; 44.21,80.5 54.21,80.5 44.21,80.5 ; 80.5,-54.21 80.5,-44.21 80.5,-54.21 ; 80.5,-34.53 80.5,-24.53 80.5,-34.53 ; 80.5,-14.84 80.5,-4.84 80.5,-14.84 ; 80.5,4.84 80.5,14.84 80.5,4.84 ; 80.5,24.53 80.5,34.53 80.5,24.53 ; 80.5,44.21 80.5,54.21 80.5,44.21
  text "*" at -43,24.21 h50
Mechanical 15:
  region: -57.21,-84.5 -84.5,-84.5 -84.5,-57.21 -92.5,-57.21 -92.5,57.21 -84.5,57.21 -84.5,84.5 -57.21,84.5 -57.21,92.5 57.21,92.5 57.21,84.5 84.5,84.5 84.5,57.21 92.5,57.21 92.5,-57.21 84.5,-57.21 84.5,-84.5 57.21,-84.5 57.21,-92.5 -57.21,-92.5
  lines w6: -92.5,-57.21 -92.5,57.21 -84.5,57.21 -84.5,84.5 -57.21,84.5 -57.21,92.5 57.21,92.5 57.21,84.5 84.5,84.5 84.5,57.21 92.5,57.21 92.5,-57.21 84.5,-57.21 84.5,-84.5 57.21,-84.5 57.21,-92.5 -57.21,-92.5 -57.21,-84.5 -84.5,-84.5 -84.5,-57.21 -92.5,-57.21
3D body "IC24_TPS259802ONRGER_TEX.step": height 39.09, standoff 0, extent -80.51,-80.51 80.52,80.52
3D body: height 10, standoff 0, extent 0,0 10,10

## IC24_TPS259802ONRGER_TEX-M [mil]
pads (26):
  rect 35x8 smd paste+0 mask+0: 1(-79,49.21) 2(-79,29.53) 3(-79,9.84) 4(-79,-9.84) 5(-79,-29.53) 6(-79,-49.21) 13(79,-49.21) 14(79,-29.53) 15(79,-9.84) 16(79,9.84) 17(79,29.53) 18(79,49.21)
  rect 8x35 smd paste+0 mask+0: 7(-49.21,-79) 8(-29.53,-79) 9(-9.84,-79) 10(9.84,-79) 11(29.53,-79) 12(49.21,-79) 19(49.21,79) 20(29.53,79) 21(9.84,79) 22(-9.84,79) 23(-29.53,79) 24(-49.21,79)
  rect 106x61 smd paste+0 mask+0: 25(0,24.61)
  rect 106x37 smd paste+0 mask+0: 26(0,-37.4)
Top Overlay:
  region: 17.34,-106.5 2.34,-106.5 2.34,-116.5 17.34,-116.5
  region: 37.03,106.5 22.03,106.5 22.03,116.5 37.03,116.5
  lines w6: -85.5,-66.31 -85.5,-85.5 -66.31,-85.5 ; -85.5,66.31 -85.5,85.5 -66.31,85.5 ; 66.31,-85.5 85.5,-85.5 85.5,-66.31 ; 66.31,85.5 85.5,85.5 85.5,66.31
  text "*" at -140,24.21 h50
Mechanical 5:
  region: 131.5,-131.5 -131.5,-131.5 -131.5,131.5 131.5,131.5
Mechanical 7:
  lines w1: -278.5,-80.5 80.5,-80.5 ; -278.5,80.5 80.5,80.5 80.5,-228.5 ; -195.5,-5.89 -53,-5.89 -53,-145.5 ; -195.5,55.11 -53,55.11 ; -180.5,-55.89 -180.5,-5.89 ; -180.5,105.11 -180.5,55.11 ; -103,-130.5 -53,-130.5 ; -103,130.5 -53,130.5 ; -80.5,-228.5 -80.5,80.5 ; -80.5,49.21 -80.5,278.5 ; -53,55.9 -53,145.5 ; 11.5,188.5 61.5,188.5 ; 49.21,80.5 278.5,80.5 ; 53,-145.5 53,-5.89 ; 53,55.11 53,145.5 ; 61.5,49.21 61.5,203.5 ; 79,29.53 203.5,29.53 ; 79,49.21 203.5,49.21 ; 80.5,-49.21 195.5,-49.21 ; 80.5,203.5 80.5,49.21 80.5,278.5 ; 103,-130.5 53,-130.5 ; 103,130.5 53,130.5 ; 130.5,188.5 80.5,188.5 ; 180.5,-130.5 180.5,-80.5 ; 180.5,0.79 180.5,-49.21 ; 188.5,-20.47 188.5,29.53 ; 188.5,99.21 188.5,49.21 ; 195.5,-80.5 49.21,-80.5 278.5,-80.5 ; -263.5,-80.5 -263.5,80.5 ; -263.5,-80.5 -268.5,-70.5 -258.5,-70.5 -263.5,-80.5 ; -263.5,80.5 -268.5,70.5 -258.5,70.5 -263.5,80.5 ; -180.5,-5.89 -185.5,-15.89 -175.5,-15.89 -180.5,-5.89 ; -180.5,55.11 -185.5,65.11 -175.5,65.11 -180.5,55.11 ; -80.5,-213.5 80.5,-213.5 ; -80.5,-213.5 -70.5,-208.5 -70.5,-218.5 -80.5,-213.5 ; -80.5,263.5 80.5,263.5 ; -80.5,263.5 -70.5,268.5 -70.5,258.5 -80.5,263.5 ; -53,-130.5 -63,-125.5 -63,-135.5 -53,-130.5 ; -53,130.5 -63,135.5 -63,125.5 -53,130.5 ; 53,-130.5 63,-125.5 63,-135.5 53,-130.5 ; 53,130.5 63,135.5 63,125.5 53,130.5 ; 61.5,188.5 51.5,193.5 51.5,183.5 61.5,188.5 ; 80.5,-213.5 70.5,-208.5 70.5,-218.5 80.5,-213.5 ; 80.5,188.5 90.5,193.5 90.5,183.5 80.5,188.5 ; 80.5,263.5 70.5,268.5 70.5,258.5 80.5,263.5 ; 180.5,-80.5 175.5,-90.5 185.5,-90.5 180.5,-80.5 ; 180.5,-49.21 175.5,-39.21 185.5,-39.21 180.5,-49.21 ; 188.5,29.53 183.5,19.53 193.5,19.53 188.5,29.53 ; 188.5,49.21 183.5,59.21 193.5,59.21 188.5,49.21 ; 263.5,-80.5 263.5,80.5 ; 263.5,-80.5 258.5,-70.5 268.5,-70.5 263.5,-80.5 ; 263.5,80.5 258.5,70.5 268.5,70.5 263.5,80.5
  text "Default Padstyle: RX8Y35D0T" at -337.5,-338.5 h50
  text "Heat Tab 1 Padstyle: RX106Y61D0T" at -400,-398.5 h50
  text "Heat Tab 2 Padstyle: RX106Y37D0T" at -400,-458.5 h50
  text "Alt 1 Padstyle: OX60Y90D30P" at -337.5,-758.5 h50
  text "Alt 2 Padstyle: OX90Y60D30P" at -337.5,-818.5 h50
  text "0.02in/0.5mm" at 113.5,26.87 h25
  text "0.019in/0.483mm" at -22.75,208.5 h25
  text "0.161in/4.089mm" at -93.75,283.5 h25
  text "0.161in/4.089mm" at 283.5,-12.5 h25
  text "0.161in/4.089mm" at -471,-12.5 h25
  text "0.161in/4.089mm" at -93.75,-258.5 h25
  text "0.106in/2.692mm" at -93.75,-175.5 h25
  text "0.061in/1.549mm" at -274.25,-20 h25
  text "-0.106in/-2.692mm" at -106.25,150.5 h25
  text "0.031in/0.795mm" at 86.75,-77 h25
Mechanical 13:
  lines w1: -80.5,30.5 -30.5,80.5 ; -80.5,-80.5 80.5,-80.5 80.5,80.5 -80.5,80.5 -80.5,-80.5 ; -80.5,-54.21 -80.5,-44.21 -80.5,-54.21 ; -80.5,-34.53 -80.5,-24.53 -80.5,-34.53 ; -80.5,-14.84 -80.5,-4.84 -80.5,-14.84 ; -80.5,4.84 -80.5,14.84 -80.5,4.84 ; -80.5,24.53 -80.5,34.53 -80.5,24.53 ; -80.5,44.21 -80.5,54.21 -80.5,44.21 ; -54.21,-80.5 -44.21,-80.5 -54.21,-80.5 ; -54.21,80.5 -44.21,80.5 -54.21,80.5 ; -34.53,-80.5 -24.53,-80.5 -34.53,-80.5 ; -34.53,80.5 -24.53,80.5 -34.53,80.5 ; -14.84,-80.5 -4.84,-80.5 -14.84,-80.5 ; -14.84,80.5 -4.84,80.5 -14.84,80.5 ; 4.84,-80.5 14.84,-80.5 4.84,-80.5 ; 4.84,80.5 14.84,80.5 4.84,80.5 ; 24.53,-80.5 34.53,-80.5 24.53,-80.5 ; 24.53,80.5 34.53,80.5 24.53,80.5 ; 44.21,-80.5 54.21,-80.5 44.21,-80.5 ; 44.21,80.5 54.21,80.5 44.21,80.5 ; 80.5,-54.21 80.5,-44.21 80.5,-54.21 ; 80.5,-34.53 80.5,-24.53 80.5,-34.53 ; 80.5,-14.84 80.5,-4.84 80.5,-14.84 ; 80.5,4.84 80.5,14.84 80.5,4.84 ; 80.5,24.53 80.5,34.53 80.5,24.53 ; 80.5,44.21 80.5,54.21 80.5,44.21
  text "*" at -43,24.21 h50
Mechanical 15:
  region: -73.21,-100.5 -100.5,-100.5 -100.5,-73.21 -116.5,-73.21 -116.5,73.21 -100.5,73.21 -100.5,100.5 -73.21,100.5 -73.21,116.5 73.21,116.5 73.21,100.5 100.5,100.5 100.5,73.21 116.5,73.21 116.5,-73.21 100.5,-73.21 100.5,-100.5 73.21,-100.5 73.21,-116.5 -73.21,-116.5
  lines w6: -116.5,-73.21 -100.5,-73.21 -100.5,-100.5 -73.21,-100.5 -73.21,-116.5 73.21,-116.5 73.21,-100.5 100.5,-100.5 100.5,-73.21 116.5,-73.21 116.5,73.21 100.5,73.21 100.5,100.5 73.21,100.5 73.21,116.5 -73.21,116.5 -73.21,100.5 -100.5,100.5 -100.5,73.21 -116.5,73.21 -116.5,-73.21
3D body "IC24_TPS259802ONRGER_TEX.step": height 39.09, standoff 0, extent -80.5,-80.5 80.52,80.52
3D body: height 10, standoff 0, extent 0,0 10,10
3D body "IC24_TPS259802ONRGER_TEX.step": height 39.09, standoff 0, extent -80.51,-80.51 80.52,80.52
3D body "IC24_TPS259802ONRGER_TEX.step": height 39.09, standoff 0, extent -80.51,-80.51 80.52,80.52

## ktt3_TEX [mil]
pads (4):
  rect 38x138 smd paste+0 mask+0: 1(-100,-381) 2(0,-381) 3(100,-381)
  rect 422x408 smd paste+0 mask+0: 4(0,0)
Top Overlay:
  lines w6: -118,-298 -118,-217.1 ; -82,-298 -82,-217.1 ; -18,-298 -18,-217.1 ; 18,-298 18,-217.1 ; 82,-298 82,-217.1 ; 118,-298 118,-217.1
  text "*" at -187.5,-406 h50
Mechanical 5:
  region: -226,229 226,229 226,-475 -226,-475
Mechanical 13:
  lines w1: -210,-190 -210,190 210,190 210,-190 -210,-190 ; -118,-436 -82,-436 -82,-190 -118,-190 -118,-436 ; -18,-436 18,-436 18,-190 -18,-190 -18,-436 ; 82,-436 118,-436 118,-190 82,-190 82,-436
  text "*" at -112.5,-205 h50
Mechanical 15:
  region: -129,-214 -221,-214 -221,214 221,214 221,-214 129,-214 129,-460 -129,-460
  lines w6: -221,-214 -129,-214 -129,-460 129,-460 129,-214 221,-214 221,214 -221,214 -221,-214
3D body: height 10, standoff 0, extent 0,0 10,10
3D body "ktt3_TEX.step": height 67.09, standoff -2.01, extent -210,-292.98 210,190.13

## ktt3_TEX-L [mil]
pads (4):
  rect 36x126 smd paste+0 mask+0: 1(-100,-379) 2(0,-379) 3(100,-379)
  rect 420x396 smd paste+0 mask+0: 4(0,-2)
Top Overlay:
  lines w6: -118,-302 -118,-214 ; -82,-302 -82,-214 ; -18,-302 -18,-214 ; 18,-302 18,-214 ; 82,-302 82,-214 ; 118,-302 118,-214
  text "*" at -187.5,-404 h50
Mechanical 5:
  region: -225,215 225,215 225,-461 -225,-461
Mechanical 7:
  lines w1: -325,-436 0,-436 425,-436 ; -325,-326 0,-326 ; -310,-486 -310,-436 ; -310,-276 -310,-326 ; -210,0 -210,305 ; -50,-513 0,-513 ; 0,-528 0,-313 ; 0,-190 325,-190 ; 100,-528 100,-313 ; 150,-513 100,-513 ; 210,0 210,305 ; 325,190 0,190 425,190 ; -310,-436 -305,-446 -315,-446 -310,-436 ; -310,-326 -305,-316 -315,-316 -310,-326 ; -210,290 -200,285 -200,295 -210,290 ; -210,290 210,290 ; 0,-513 -10,-518 -10,-508 0,-513 ; 100,-513 110,-518 110,-508 100,-513 ; 210,290 200,285 200,295 210,290 ; 310,-190 315,-180 305,-180 310,-190 ; 310,-190 310,190 ; 310,190 315,180 305,180 310,190 ; 410,-436 415,-426 405,-426 410,-436 ; 410,-436 410,190 ; 410,190 415,180 405,180 410,190
  text "0.1in/2.54mm" at -25,-558 h25
  text "0.11in/2.794mm" at -505,-393.5 h25
  text "0.626in/15.9mm" at 430,-201.5 h25
  text "0.42in/10.668mm" at -93.75,310 h25
  text "0.38in/9.652mm" at 330,-12.5 h25
  text "Alt 2 Padstyle: OX90Y60D30P" at -337.5,-1011 h50
  text "Alt 1 Padstyle: OX60Y90D30P" at -337.5,-936 h50
  text "Large Padstyle: RX420Y396D0T" at -350,-861 h50
  text "Default Padstyle: RX36Y126D0T" at -362.5,-786 h50
Mechanical 13:
  lines w1: -210,-190 -210,190 210,190 210,-190 -210,-190 ; -118,-436 -82,-436 -82,-190 -118,-190 -118,-436 ; -18,-436 18,-436 18,-190 -18,-190 -18,-436 ; 82,-436 118,-436 118,-190 82,-190 82,-436
  text "*" at -112.5,-205 h50
Mechanical 15:
  region: -122,-204 -214,-204 -214,200 214,200 214,-204 122,-204 122,-446 -122,-446
  lines w6: -214,-204 -122,-204 -122,-446 122,-446 122,-204 214,-204 214,200 -214,200 -214,-204
3D body: height 10, standoff 0, extent 0,0 10,10
3D body "ktt3_TEX.step": height 67.09, standoff -2.01, extent -210,-292.98 210,190.13